# EAGLE library part TP25K_BOTTOM (library TP25K_SGQ)
DF40C-60DS-0.4V(51)
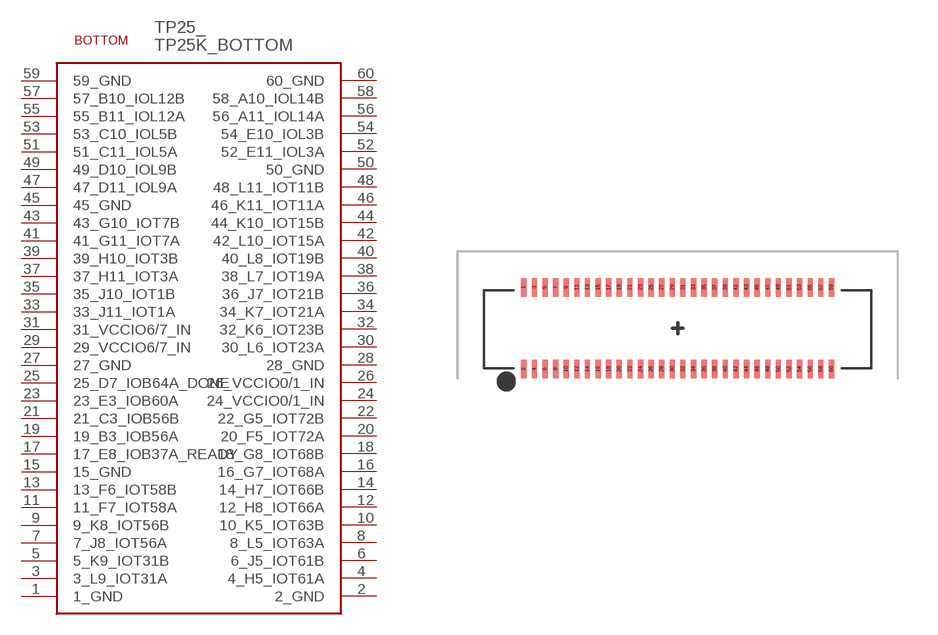
[diagram p1: symbol with the pads of TP25K_BOT_FP; footprint TP25K_BOT_FP]

Designator prefix TP25_

## TP25K_BOTTOM (LCSC_PART: C597938)  [TP25K_BOT_FP]
1  1_GND
2  2_GND
3  3_L9_IOT31A
4  4_H5_IOT61A
5  5_K9_IOT31B
6  6_J5_IOT61B
7  7_J8_IOT56A
8  8_L5_IOT63A
9  9_K8_IOT56B
10  10_K5_IOT63B
11  11_F7_IOT58A
12  12_H8_IOT66A
13  13_F6_IOT58B
14  14_H7_IOT66B
15  15_GND
16  16_G7_IOT68A
17  17_E8_IOB37A_READY
18  18_G8_IOT68B
19  19_B3_IOB56A
20  20_F5_IOT72A
21  21_C3_IOB56B
22  22_G5_IOT72B
23  23_E3_IOB60A
24  24_VCCIO0/1_IN
25  25_D7_IOB64A_DONE
26  26_VCCIO0/1_IN
27  27_GND
28  28_GND
29  29_VCCIO6/7_IN
30  30_L6_IOT23A
31  31_VCCIO6/7_IN
32  32_K6_IOT23B
33  33_J11_IOT1A
34  34_K7_IOT21A
35  35_J10_IOT1B
36  36_J7_IOT21B
37  37_H11_IOT3A
38  38_L7_IOT19A
39  39_H10_IOT3B
40  40_L8_IOT19B
41  41_G11_IOT7A
42  42_L10_IOT15A
43  43_G10_IOT7B
44  44_K10_IOT15B
45  45_GND
46  46_K11_IOT11A
47  47_D11_IOL9A
48  48_L11_IOT11B
49  49_D10_IOL9B
50  50_GND
51  51_C11_IOL5A
52  52_E11_IOL3A
53  53_C10_IOL5B
54  54_E10_IOL3B
55  55_B11_IOL12A
56  56_A11_IOL14A
57  57_B10_IOL12B
58  58_A10_IOL14B
59  59_GND
60  60_GND

## Footprint TP25K_BOT_FP (pad centres in mm)
DF40C-60DS-0.4V(51)-3
smd 0.2 x 0.7: 1 -5.8,1.54; 2 -5.8,-1.54; 3 -5.4,1.54; 4 -5.4,-1.54; 5 -5,1.54; 6 -5,-1.54; 7 -4.6,1.54; 8 -4.6,-1.54; 9 -4.2,1.54; 10 -4.2,-1.54; 11 -3.8,1.54; 12 -3.8,-1.54; 13 -3.4,1.54; 14 -3.4,-1.54; 15 -3,1.54; 16 -3,-1.54; 17 -2.6,1.54; 18 -2.6,-1.54; 19 -2.2,1.54; 20 -2.2,-1.54; 21 -1.8,1.54; 22 -1.8,-1.54; 23 -1.4,1.54; 24 -1.4,-1.54; 25 -1,1.54; 26 -1,-1.54; 27 -0.6,1.54; 28 -0.6,-1.54; 29 -0.2,1.54; 30 -0.2,-1.54; 31 0.2,1.54; 32 0.2,-1.54; 33 0.6,1.54; 34 0.6,-1.54; 35 1,1.54; 36 1,-1.54; 37 1.4,1.54; 38 1.4,-1.54; 39 1.8,1.54; 40 1.8,-1.54; 41 2.2,1.54; 42 2.2,-1.54; 43 2.6,1.54; 44 2.6,-1.54; 45 3,1.54; 46 3,-1.54; 47 3.4,1.54; 48 3.4,-1.54; 49 3.8,1.54; 50 3.8,-1.54; 51 4.2,1.54; 52 4.2,-1.54; 53 4.6,1.54; 54 4.6,-1.54; 55 5,1.54; 56 5,-1.54; 57 5.4,1.54; 58 5.4,-1.54; 59 5.8,1.54; 60 5.8,-1.54